# Altium integrated library Integrated_Library1.IntLib: 22 symbols
Pins are listed as number, name and electrical type; pins without a type are passive.

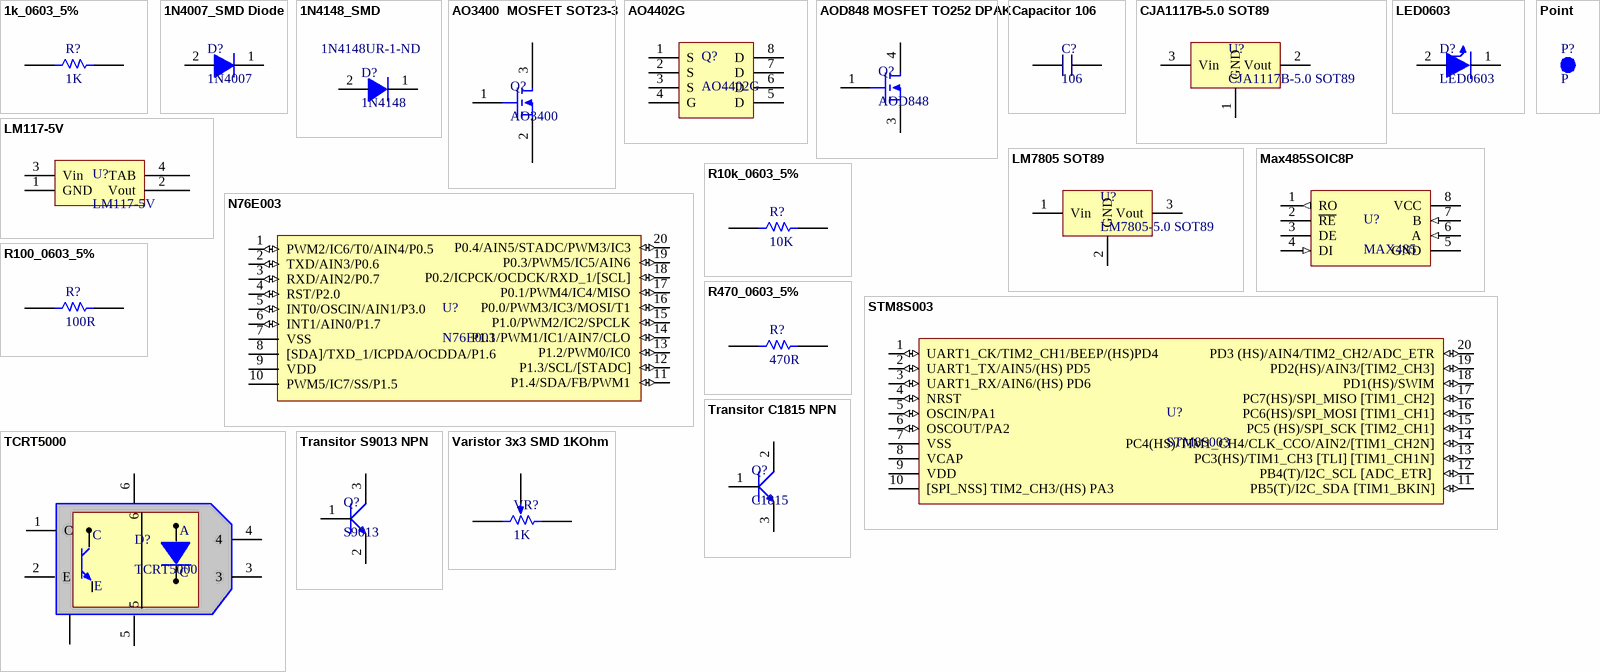
[diagram p0: symbols 1k_0603_5% to Varistor 3x3 SMD 1KOhm]

## 1k_0603_5%
designator R?, comment 1K
Thick Film Resistors - SMD 0603 1kOHMS 5% 1/10WATT; Supplier 1: Digi-Key; Supplier Part Number 1: CR0603-JW-101ELFCT-ND
footprint RESC2608X06N_0603 (Chip Resistor, 2-Leads, Body 2.60x0.80mm, IPC Medium Density)
pins: 1, 2

## 1N4007_SMD Diode
designator D?, comment 1N4007
1N4007_SMD
footprint SODFL504X244-2N (SODFL, 2-Leads, Body 2.70x5.04mm, IPC Medium Density)
pins: 1 C, 2 A

## 1N4148_SMD
designator D?, comment 1N4148  Supplier Part Number 1: 1N4148UR-1-ND
DIODE GEN PURP 75V 200MA DO213AA; Supplier 1: Digi-Key
footprint DIOMELF3515N (MELF Diode, 2-Leads, Body 3.50x1.55mm, IPC Medium Density)
pins: 1 C, 2 A

## AO3400  MOSFET SOT23-3
designator Q?, comment AO3400
AO3400  MOSFET SOT23-3
footprint SOT95P278X125-3N (SOT23, 3-Leads, Body 2.92x2.78mm, Pitch 0.95mm, IPC Medium Density)
pins: 1 G, 2 S, 3 D

## AO4402G
designator Q?
20V N-Channel MOSFET
pins: 1 S, 2 S, 3 S, 4 G, 5 D, 6 D, 7 D, 8 D

## AOD848 MOSFET TO252 DPAK
designator Q?, comment AOD848
AOD848 MOSFET TO252 DPAK
footprint DPAK228P991X229-3N_TO252 (D-PAK, 3-Pads, Body 6.15x6.65mm (max), IPC Medium Density)
pins: 1 G, 3 S, 4 D

## Capacitor 106
designator C?, comment 106
pins: 1, 2

## CJA1117B-5.0 SOT89
designator U?
CJA1117B-5.0 SOT89 Power IC 1A 5V_IC
footprint SOT89-150P409X160-3N (SOT89, 3-Leads, Body 4.50x2.45mm, Pitch 1.50mm, Lead Span 4.1mm, IPC Medium Density)
pins: 1 GND (power), 2 Vout (power), 3 Vin (power)

## LED0603
designator D?
footprint DIOC1608X06N (Chip Diode, 2-Leads, Body 1.60x0.80mm, IPC Medium Density)
pins: 1 A, 2 C

## LM117-5V
designator U?
footprint SOT230P700X180-4N (SOT223, 4-Leads, Body 6.50x7.00mm (avg), Pitch 2.30mm, IPC Medium Density)
pins: 1 GND (power), 2 Vout (power), 3 Vin (power), 4 TAB (power)

## LM7805 SOT89
designator U?, comment LM7805-5.0 SOT89
LM7805 SOT89
footprint SOT89-150P409X160-3N (SOT89, 3-Leads, Body 4.50x2.45mm, Pitch 1.50mm, Lead Span 4.1mm, IPC Medium Density)
pins: 1 Vin (power), 2 GND (power), 3 Vout (power)

## Max485SOIC8P
designator U?, comment MAX485
IC TXRX RS485/RS422 LOWPWR 8SOIC; Supplier 1: Digi-Key; Supplier Part Number 1: MAX485CSA+-ND
footprint SOIC127P600X175-8N (SOIC, 8-Leads, Body 4.90x3.90mm, Pitch 1.27mm, IPC Medium Density)
pins: 1 RO (out), 2 ~{RE}, 3 DE, 4 DI (in), 5 GND (power), 6 A (in), 7 B (in), 8 VCC (power)

## N76E003
designator U?
IC MCU 8BIT 18KB FLASH 20TSSOP; Value: STM8S003F3; Supplier Part Number 1: 497-18051-1-ND
footprint TSOP65P640X120-20N (TSOP, 20-Leads, Body 6.50x4.40mm, Pitch 0.65mm, IPC Medium Density)
pins: 1 PWM2/IC6/T0/AIN4/P0.5 (io) "IO PORT", 2 TXD/AIN3/P0.6 (io) "IO PORT", 3 RXD/AIN2/P0.7 (io) "IO PORT", 4 RST/P2.0 (io) "IO PORT", 5 INT0/OSCIN/AIN1/P3.0 (io) "IO PORT", 6 INT1/AIN0/P1.7 (io) "IO PORT", 7 VSS (power) "Power Port", 8 [SDA]/TXD_1/ICPDA/OCDDA/P1.6 (power) "Power Port", 9 VDD (power) "Power Port", 10 PWM5/IC7/SS/P1.5 (power) "Power Port", 11 P1.4/SDA/FB/PWM1 (io) "IO PORT", 12 P1.3/SCL/[STADC] (io) "IO PORT", 13 P1.2/PWM0/IC0 (io) "IO PORT", 14 P1.1/PWM1/IC1/AIN7/CLO (io) "IO PORT", 15 P1.0/PWM2/IC2/SPCLK (io) "IO PORT", 16 P0.0/PWM3/IC3/MOSI/T1 (io) "IO PORT", 17 P0.1/PWM4/IC4/MISO (io) "IO PORT", 18 P0.2/ICPCK/OCDCK/RXD_1/[SCL] (io) "IO PORT", 19 P0.3/PWM5/IC5/AIN6 (io) "IO PORT", 20 P0.4/AIN5/STADC/PWM3/IC3 (io) "IO PORT"

## Point
designator P?, comment P
pins: 1

## R10k_0603_5%
designator R?, comment 10K
RES SMD 10K OHM 1% 1/4W 0603; Supplier 1: Digi-Key; Supplier Part Number 1: 541-10.0KSCT-ND
footprint RESC2608X06N_0603 (Chip Resistor, 2-Leads, Body 2.60x0.80mm, IPC Medium Density)
pins: 1, 2

## R100_0603_5%
designator R?, comment 100R
Thick Film Resistors - SMD 0603 100OHMS 5% 1/10WATT; Supplier 1: Digi-Key; Supplier Part Number 1: CR0603-JW-101ELFCT-ND
footprint RESC2608X06N_0603 (Chip Resistor, 2-Leads, Body 2.60x0.80mm, IPC Medium Density)
pins: 1, 2

## R470_0603_5%
designator R?, comment 470R
Thick Film Resistors - SMD 470 ohm 5%; Supplier 1: Digi-Key; Supplier Part Number 1: CR0603-JW-471ELFCT-ND
footprint RESC2608X06N_0603 (Chip Resistor, 2-Leads, Body 2.60x0.80mm, IPC Medium Density)
pins: 1, 2

## STM8S003
designator U?
MCU 8-bit STM8S STM8 CISC 8KB Flash 3.3V/5V 20-Pin TSSOP T/R; Value: STM8S003F3; Supplier Part Number 1: 497-18051-1-ND
footprint TSOP65P640X120-20N (TSOP, 20-Leads, Body 6.50x4.40mm, Pitch 0.65mm, IPC Medium Density)
pins: 1 UART1_CK/TIM2_CH1/BEEP/(HS)PD4 (io) "IO PORT", 2 UART1_TX/AIN5/(HS) PD5 (io) "IO PORT", 3 UART1_RX/AIN6/(HS) PD6 (io) "IO PORT", 4 NRST (io) "IO PORT", 5 OSCIN/PA1 (io) "IO PORT", 6 OSCOUT/PA2 (io) "IO PORT", 7 VSS (power) "Power Port", 8 VCAP (power) "Power Port", 9 VDD (power) "Power Port", 10 [SPI_NSS] TIM2_CH3/(HS) PA3 (power) "Power Port", 11 PB5(T)/I2C_SDA [TIM1_BKIN] (io) "IO PORT", 12 PB4(T)/I2C_SCL [ADC_ETR]  (io) "IO PORT", 13 PC3(HS)/TIM1_CH3 [TLI] [TIM1_CH1N] (io) "IO PORT", 14 PC4(HS)/TIM1_CH4/CLK_CCO/AIN2/[TIM1_CH2N] (io) "IO PORT", 15 PC5 (HS)/SPI_SCK [TIM2_CH1] (io) "IO PORT", 16 PC6(HS)/SPI_MOSI [TIM1_CH1] (io) "IO PORT", 17 PC7(HS)/SPI_MISO [TIM1_CH2] (io) "IO PORT", 18 PD1(HS)/SWIM (io) "IO PORT", 19 PD2(HS)/AIN3/[TIM2_CH3] (io) "IO PORT", 20 PD3 (HS)/AIN4/TIM2_CH2/ADC_ETR (io) "IO PORT"

## TCRT5000
designator D?
footprint TCRT5000 (IR Transmitter And Receiver)
pins: 1 C, 2 E, 3, 4, 5, 6, 7
text: A

## Transitor C1815 NPN
designator Q?, comment C1815
SOT-23 Plastic-Encapsulate Transistors
footprint SOT95P278X125-3N (SOT23, 3-Leads, Body 2.92x2.78mm, Pitch 0.95mm, IPC Medium Density)
pins: 1 B, 2 C, 3 E

## Transitor S9013 NPN
designator Q?, comment S9013
SOT-23 Plastic-Encapsulate Transistors
footprint SOT95P278X125-3N (SOT23, 3-Leads, Body 2.92x2.78mm, Pitch 0.95mm, IPC Medium Density)
pins: 1 B, 2 C, 3

## Varistor 3x3 SMD 1KOhm
designator VR?, comment 1K
Varistor 3x3 SMD 1KOhm 5% 1/10WATT; Supplier 1: Digi-Key; Supplier Part Number 1: CR0603-JW-101ELFCT-ND
footprint Var_SMD_3x3 (3x3 102-1K SMD 3303W)
pins: 1, 2, 3